# Altium footprint library RV-8803-C7.PcbLib: 1 footprints
Each footprint in its own frame and in the unit in brackets; x right, y up, seen from the top. Pads: shape width x height; smd on the part's side, far side on the other; paste and mask are expansions set on the pad; w line width, h text height; cw(c..) or ccw(c..) is an arc to the next point about the centre after c.
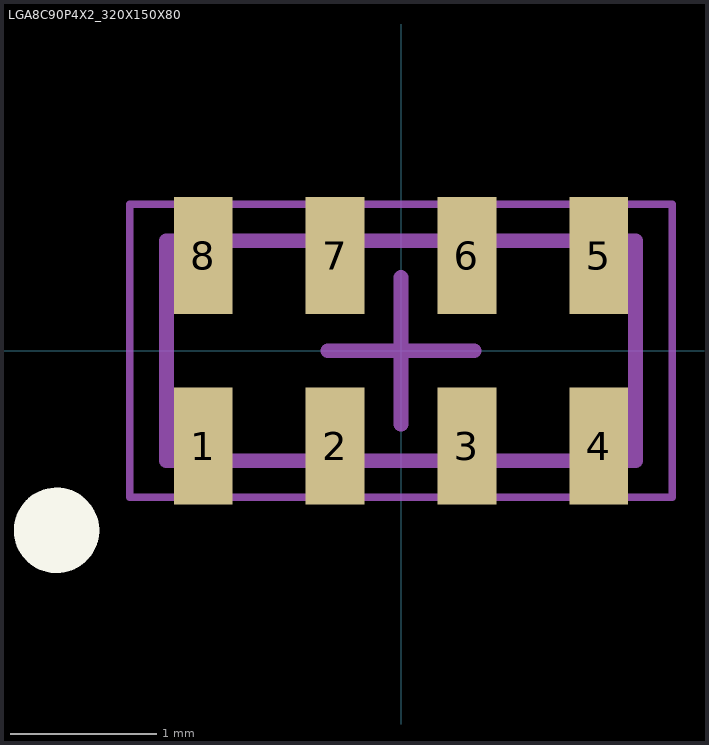
[diagram p0: the footprint, top view; thin cyan lines are the x and y axes]

## LGA8C90P4X2_320X150X80 [mm] "LGA, 8-Leads, Body 3,20x1,50mmx0,80mm, Pitch 0,90mm"
height 0.8
pads (8):
  rect 0.4x0.8 smd: 1(-1.35,-0.65) 2(-0.45,-0.65) 3(0.45,-0.65) 4(1.35,-0.65) 5(1.35,0.65) 6(0.45,0.65) 7(-0.45,0.65) 8(-1.35,0.65)
Top Overlay:
  circle w0.3: c-2.35,-1.225 r0.141
3D Top:
  lines w0.1: -1.6,-0.75 -1.6,0.75 1.6,0.75 1.6,-0.75 -1.6,-0.75
Courtyard Top:
  lines w0.05: -1.85,-1 -1.85,1 1.85,1 1.85,-1 -1.85,-1
  lines w0.1: -0.5,0 0.5,0 ; 0,-0.5 0,0.5
3D body: height 0.8, standoff 0.1, extent -1.6,-0.75 1.6,0.75